# Altium footprint library 12.8x12.8.PcbLib: 1 footprints
Each footprint in its own frame and in the unit in brackets; x right, y up, seen from the top. Pads: shape width x height; smd on the part's side, far side on the other; paste and mask are expansions set on the pad; w line width, h text height; cw(c..) or ccw(c..) is an arc to the next point about the centre after c.
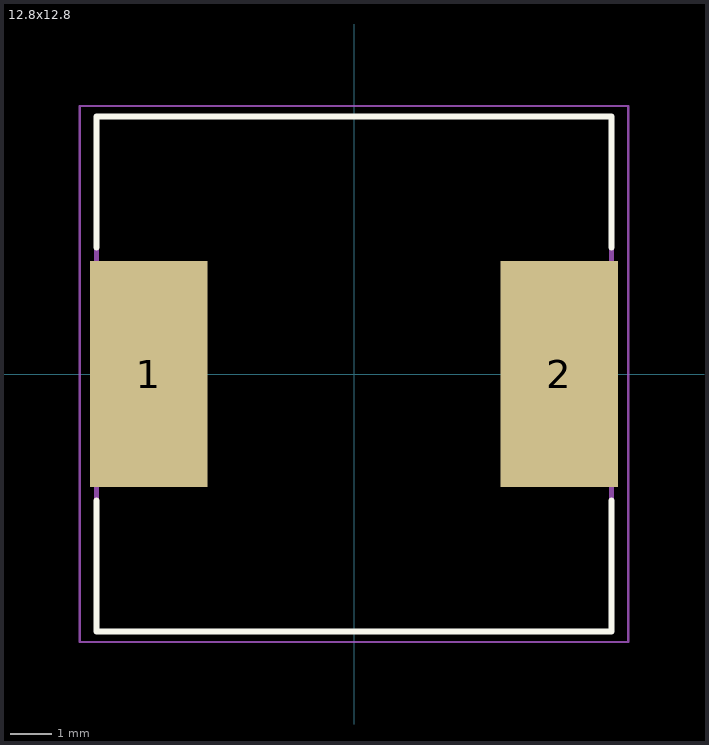
[diagram p0: the footprint, top view; thin cyan lines are the x and y axes]

## 12.8x12.8 [mm] "Индуктивность"
height 6
pads (2):
  rect 2.8x5.4 smd: 1(-4.9,0) 2(4.9,0)
Top Overlay:
  lines w0.15: -6.15,-3.02 -6.15,-6.15 6.15,-6.15 6.15,-3.02 ; -6.15,3.02 -6.15,6.15 6.15,6.15 6.15,3.02
Mechanical 13:
  lines w0.127: -6.15,-6.15 -6.15,6.15 6.15,6.15 6.15,-6.15 -6.15,-6.15
Mechanical 15:
  lines w0.05: -6.55,-6.4 -6.55,6.4 6.55,6.4 6.55,-6.4 -6.55,-6.4
3D body "step_temp.STEP": height 6, standoff 0, extent -6.15,-6.15 6.15,6.15